# EAGLE library part PA_VIDERE_BRD (library PatternAgents-Boards)
PatternAgents Videre Shield Pattern Source LBR : http://www.patternagents.com Github : https://github.com/patternagents License : http://creativecommons.org/licenses/by-sa/4.0/ (Creative Commons 4.0) THIS SOFTWARE IS PROVIDED BY THE CONTRIBUTORS "AS IS" AND WITHOUT ANY EXPRESS OR IMPLIED WARRANTIES, INCLUDING, BUT NOT LIMITED TO, THE IMPLIED WARRANTIES OF MERCHANTABILITY AND FITNESS FOR A PARTICULAR PURPOSE ARE DISCLAIMED. IN NO EVENT SHALL THE COPYRIGHT OWNER OR CONTRIBUTORS BE LIABLE FOR ANY DIRECT, INDIRECT, INCIDENTAL, SPECIAL, EXEMPLARY, OR CONSEQUENTIAL DAMAGES (INCLUDING, BUT NOT LIMITED TO, PROCUREMENT OF SUBSTITUTE GOODS OR SERVICES; LOSS OF USE, DATA, OR PROFITS; OR BUSINESS INTERRUPTION) HOWEVER CAUSED AND ON ANY THEORY OF LIABILITY, WHETHER IN CONTRACT, STRICT LIABILITY, OR TORT (INCLUDING NEGLIGENCE OR OTHERWISE) ARISING IN ANY WAY OUT OF THE USE OF THIS SOFTWARE, EVEN IF ADVISED OF THE POSSIBILITY OF SUCH DAMAGE.
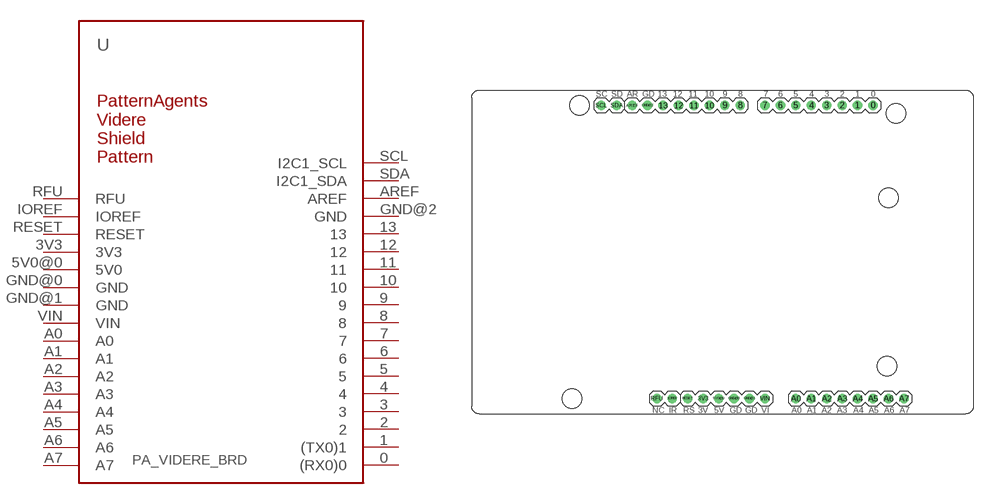
[diagram p4: symbol with the pads of PA_VIDERE; footprint PA_VIDERE]

Designator prefix U

## PA_VIDERE_BRD  [PA_VIDERE]
0  (RX0)0
1  (TX0)1
2  2
3  3
3V3  3V3
4  4
5  5
5V0@0  5V0
6  6
7  7
8  8
9  9
10  10
11  11
12  12
13  13
A0  A0
A1  A1
A2  A2
A3  A3
A4  A4
A5  A5
A6  A6
A7  A7
AREF  AREF
GND@0  GND
GND@1  GND
GND@2  GND
IOREF  IOREF  out
RESET  RESET
RFU  RFU  pwr
SCL  I2C1_SCL
SDA  I2C1_SDA
VIN  VIN

## Footprint PA_VIDERE (pad centres in mm)
PatternAgents Videre Shield Pattern Source LBR : http://www.patternagents.com Github : https://github.com/patternagents License : http://creativecommons.org/licenses/by-sa/4.0/ (Creative Commons 4.0) THIS SOFTWARE IS PROVIDED BY THE CONTRIBUTORS "AS IS" AND WITHOUT ANY EXPRESS OR IMPLIED WARRANTIES, INCLUDING, BUT NOT LIMITED TO, THE IMPLIED WARRANTIES OF MERCHANTABILITY AND FITNESS FOR A PARTICULAR PURPOSE ARE DISCLAIMED. IN NO EVENT SHALL THE COPYRIGHT OWNER OR CONTRIBUTORS BE LIABLE FOR ANY DIRECT, INDIRECT, INCIDENTAL, SPECIAL, EXEMPLARY, OR CONSEQUENTIAL DAMAGES (INCLUDING, BUT NOT LIMITED TO, PROCUREMENT OF SUBSTITUTE GOODS OR SERVICES; LOSS OF USE, DATA, OR PROFITS; OR BUSINESS INTERRUPTION) HOWEVER CAUSED AND ON ANY THEORY OF LIABILITY, WHETHER IN CONTRACT, STRICT LIABILITY, OR TORT (INCLUDING NEGLIGENCE OR OTHERWISE) ARISING IN ANY WAY OUT OF THE USE OF THIS SOFTWARE, EVEN IF ADVISED OF THE POSSIBILITY OF SUCH DAMAGE.
drill 1.016: 0 66.04,50.8; 1 63.5,50.8; 2 60.96,50.8; 3 58.42,50.8; 3V3 38.1,2.54; 4 55.88,50.8; 5 53.34,50.8; 5V0@0 40.64,2.54; 6 50.8,50.8; 7 48.26,50.8; 8 44.196,50.8; 9 41.656,50.8; 10 39.116,50.8; 11 36.576,50.8; 12 34.036,50.8; 13 31.496,50.8; A0 53.34,2.54; A1 55.88,2.54; A2 58.42,2.54; A3 60.96,2.54; A4 63.5,2.54; A5 66.04,2.54; A6 68.58,2.54; A7 71.12,2.54; AREF 26.416,50.8; GND@0 43.18,2.54; GND@1 45.72,2.54; GND@2 28.956,50.8; IOREF 33.02,2.54; RESET 35.56,2.54; RFU 30.48,2.54; SCL 21.336,50.8; SDA 23.876,50.8; VIN 48.26,2.54
hole 3.2 at 17.78,50.8
hole 3.2 at 16.51,2.54
hole 3.2 at 68.326,7.874
hole 3.2 at 68.58,35.56
hole 3.2 at 69.85,49.53